# Altium footprint library 74HC4067BQ.PcbLib: 1 footprints
Each footprint in its own frame and in the unit in brackets; x right, y up, seen from the top. Pads: shape width x height; smd on the part's side, far side on the other; paste and mask are expansions set on the pad; w line width, h text height; cw(c..) or ccw(c..) is an arc to the next point about the centre after c.
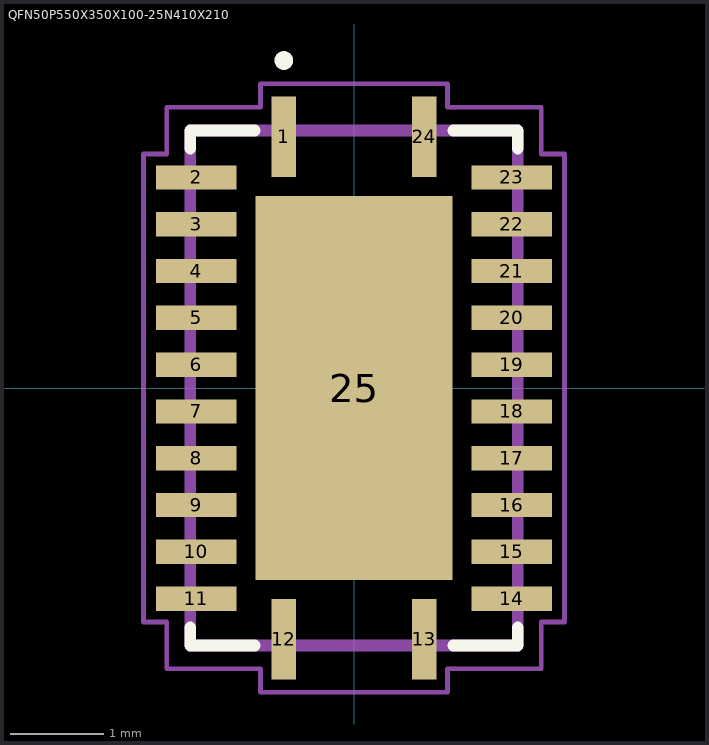
[diagram p0: the footprint, top view; thin cyan lines are the x and y axes]

## QFN50P550X350X100-25N410X210 [mm]
pads (25):
  rect 0.26x0.86 smd: 1(-0.75,2.685) 12(-0.75,-2.685) 13(0.75,-2.685) 24(0.75,2.685)
  rect 0.86x0.26 smd: 2(-1.685,2.25) 3(-1.685,1.75) 4(-1.685,1.25) 5(-1.685,0.75) 6(-1.685,0.25) 7(-1.685,-0.25) 8(-1.685,-0.75) 9(-1.685,-1.25) 10(-1.685,-1.75) 11(-1.685,-2.25) 14(1.685,-2.25) 15(1.685,-1.75) 16(1.685,-1.25) 17(1.685,-0.75) 18(1.685,-0.25) 19(1.685,0.25) 20(1.685,0.75) 21(1.685,1.25) 22(1.685,1.75) 23(1.685,2.25)
  rect 2.1x4.1 smd paste-3 mask+0: 25(0,0)
Top Overlay:
  circle w0.1: c-0.75,3.5 r0.05
  lines w0.127: -1.75,-2.56 -1.75,-2.75 -1.06,-2.75 ; -1.75,2.56 -1.75,2.75 -1.06,2.75 ; 1.06,-2.75 1.75,-2.75 1.75,-2.56 ; 1.06,2.75 1.75,2.75 1.75,2.56
Top Paste:
  region: 0.664,-1.298 -0.665,-1.298 -0.665,1.296 0.664,1.296
Top Solder:
  region: 1.126,-2.13 -1.128,-2.13 -1.128,2.126 1.126,2.126
Mechanical 13:
  circle w0.1: c-0.75,3 r0.05
  lines w0.127: -1.75,-2.75 1.75,-2.75 1.75,2.75 -1.75,2.75 -1.75,-2.75
Mechanical 15:
  lines w0.05: -2.25,-2.5 -2,-2.5 -2,-3 -1,-3 -1,-3.25 1,-3.25 1,-3 2,-3 2,-2.5 2.25,-2.5 2.25,2.5 2,2.5 2,3 1,3 1,3.25 -1,3.25 -1,3 -2,3 -2,2.5 -2.25,2.5 -2.25,-2.5
3D body "74HC4067BQ.STEP": height 1.01, standoff 0.01, extent -1.75,-2.75 1.75,2.75